# EAGLE library part MSP430FR5989IRGCT (library msp430fr5989irgct)
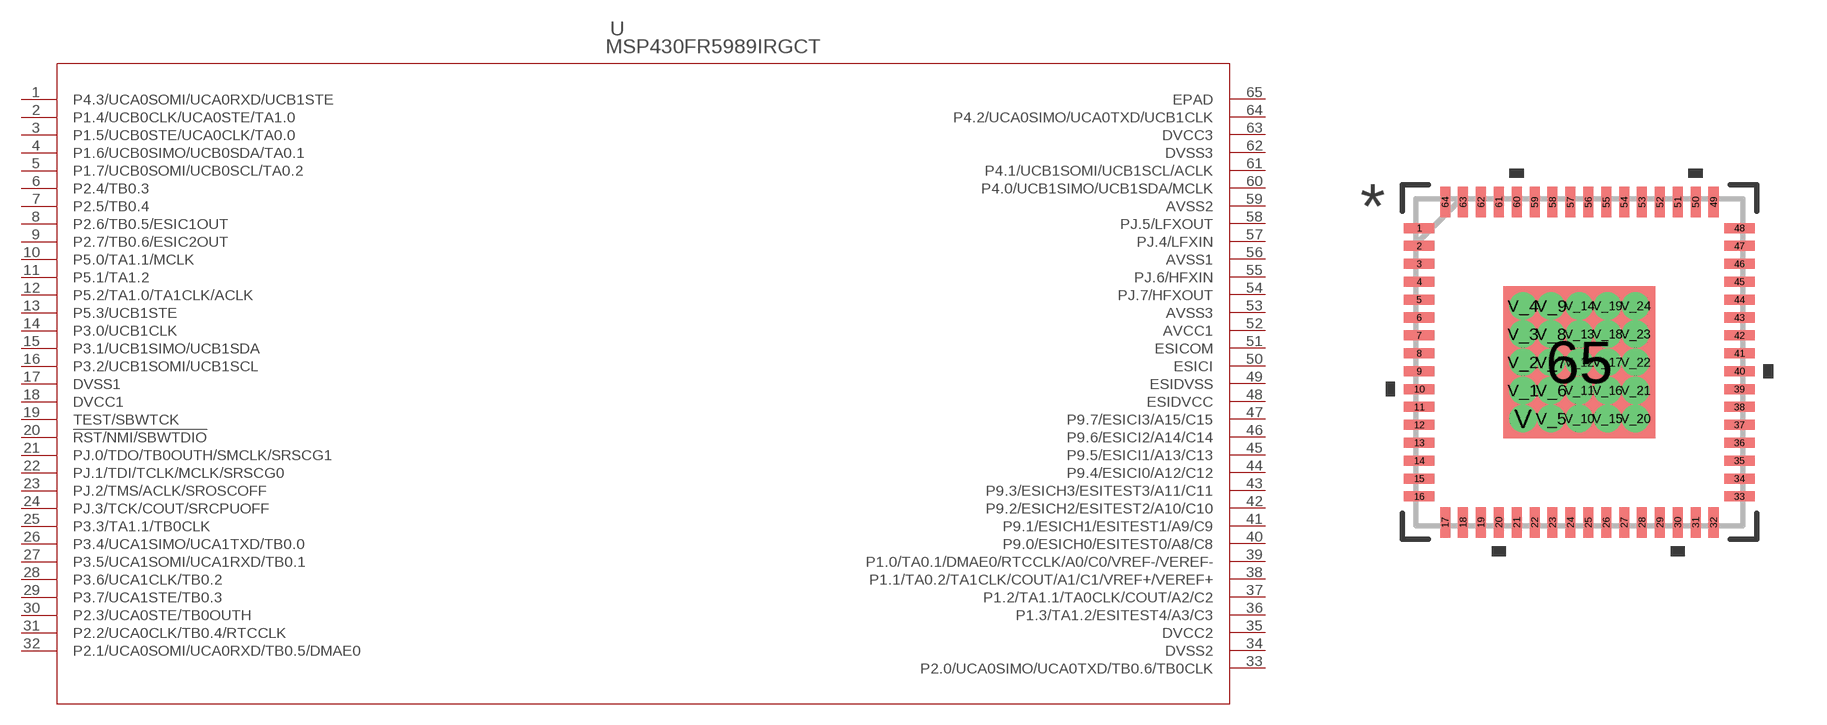
[diagram p0: symbol with the pads of RGC64_4P25X4P25; footprint RGC64_4P25X4P25]

Designator prefix U

## MSP430FR5989IRGCT (MANUFACTURER_PART_NUMBER: MSP430FR5989IRGCT; VENDOR: Texas Instruments)  [RGC64_4P25X4P25]
1  P4.3/UCA0SOMI/UCA0RXD/UCB1STE
2  P1.4/UCB0CLK/UCA0STE/TA1.0
3  P1.5/UCB0STE/UCA0CLK/TA0.0
4  P1.6/UCB0SIMO/UCB0SDA/TA0.1
5  P1.7/UCB0SOMI/UCB0SCL/TA0.2
6  P2.4/TB0.3
7  P2.5/TB0.4
8  P2.6/TB0.5/ESIC1OUT
9  P2.7/TB0.6/ESIC2OUT
10  P5.0/TA1.1/MCLK
11  P5.1/TA1.2
12  P5.2/TA1.0/TA1CLK/ACLK
13  P5.3/UCB1STE
14  P3.0/UCB1CLK
15  P3.1/UCB1SIMO/UCB1SDA
16  P3.2/UCB1SOMI/UCB1SCL
17  DVSS1  pwr
18  DVCC1  pwr
19  TEST/SBWTCK  in
20  !RST/NMI/SBWTDIO
21  PJ.0/TDO/TB0OUTH/SMCLK/SRSCG1
22  PJ.1/TDI/TCLK/MCLK/SRSCG0
23  PJ.2/TMS/ACLK/SROSCOFF
24  PJ.3/TCK/COUT/SRCPUOFF
25  P3.3/TA1.1/TB0CLK
26  P3.4/UCA1SIMO/UCA1TXD/TB0.0
27  P3.5/UCA1SOMI/UCA1RXD/TB0.1
28  P3.6/UCA1CLK/TB0.2
29  P3.7/UCA1STE/TB0.3
30  P2.3/UCA0STE/TB0OUTH
31  P2.2/UCA0CLK/TB0.4/RTCCLK
32  P2.1/UCA0SOMI/UCA0RXD/TB0.5/DMAE0
33  P2.0/UCA0SIMO/UCA0TXD/TB0.6/TB0CLK
34  DVSS2  pwr
35  DVCC2  pwr
36  P1.3/TA1.2/ESITEST4/A3/C3
37  P1.2/TA1.1/TA0CLK/COUT/A2/C2
38  P1.1/TA0.2/TA1CLK/COUT/A1/C1/VREF+/VEREF+
39  P1.0/TA0.1/DMAE0/RTCCLK/A0/C0/VREF-/VEREF-
40  P9.0/ESICH0/ESITEST0/A8/C8
41  P9.1/ESICH1/ESITEST1/A9/C9
42  P9.2/ESICH2/ESITEST2/A10/C10
43  P9.3/ESICH3/ESITEST3/A11/C11
44  P9.4/ESICI0/A12/C12
45  P9.5/ESICI1/A13/C13
46  P9.6/ESICI2/A14/C14
47  P9.7/ESICI3/A15/C15
48  ESIDVCC  pwr
49  ESIDVSS  pwr
50  ESICI  in
51  ESICOM  pas
52  AVCC1  pwr
53  AVSS3  pwr
54  PJ.7/HFXOUT
55  PJ.6/HFXIN
56  AVSS1  pwr
57  PJ.4/LFXIN
58  PJ.5/LFXOUT
59  AVSS2  pwr
60  P4.0/UCB1SIMO/UCB1SDA/MCLK
61  P4.1/UCB1SOMI/UCB1SCL/ACLK
62  DVSS3  pwr
63  DVCC3  pwr
64  P4.2/UCA0SIMO/UCA0TXD/UCB1CLK
65  EPAD  pas

## Footprint RGC64_4P25X4P25 (pad centres in mm)
smd 0.85 x 0.28: 1 -4.475,3.75; 2 -4.475,3.25; 3 -4.475,2.75; 4 -4.475,2.25; 5 -4.475,1.75; 6 -4.475,1.25; 7 -4.475,0.75; 8 -4.475,0.25; 9 -4.475,-0.25; 10 -4.475,-0.75; 11 -4.475,-1.25; 12 -4.475,-1.75; 13 -4.475,-2.25; 14 -4.475,-2.75; 15 -4.475,-3.25; 16 -4.475,-3.75; 33 4.475,-3.75; 34 4.475,-3.25; 35 4.475,-2.75; 36 4.475,-2.25; 37 4.475,-1.75; 38 4.475,-1.25; 39 4.475,-0.75; 40 4.475,-0.25; 41 4.475,0.25; 42 4.475,0.75; 43 4.475,1.25; 44 4.475,1.75; 45 4.475,2.25; 46 4.475,2.75; 47 4.475,3.25; 48 4.475,3.75
smd 0.28 x 0.85: 17 -3.751,-4.475; 18 -3.251,-4.475; 19 -2.751,-4.475; 20 -2.251,-4.475; 21 -1.75,-4.475; 22 -1.25,-4.475; 23 -0.75,-4.475; 24 -0.25,-4.475; 25 0.25,-4.475; 26 0.75,-4.475; 27 1.25,-4.475; 28 1.75,-4.475; 29 2.251,-4.475; 30 2.751,-4.475; 31 3.251,-4.475; 32 3.751,-4.475; 49 3.751,4.475; 50 3.251,4.475; 51 2.751,4.475; 52 2.251,4.475; 53 1.75,4.475; 54 1.25,4.475; 55 0.75,4.475; 56 0.25,4.475; 57 -0.25,4.475; 58 -0.75,4.475; 59 -1.25,4.475; 60 -1.75,4.475; 61 -2.251,4.475; 62 -2.751,4.475; 63 -3.251,4.475; 64 -3.751,4.475
smd 4.25 x 4.25: 65 0,0
drill 0.254 pad 0.508: V -1.575,-1.575; V_1 -1.575,-0.787; V_2 -1.575,0; V_3 -1.575,0.787; V_4 -1.575,1.575; V_5 -0.787,-1.575; V_6 -0.787,-0.787; V_7 -0.787,0; V_8 -0.787,0.787; V_9 -0.787,1.575; V_10 0,-1.575; V_11 0,-0.787; V_12 0,0; V_13 0,0.787; V_14 0,1.575; V_15 0.787,-1.575; V_16 0.787,-0.787; V_17 0.787,0; V_18 0.787,0.787; V_19 0.787,1.575; V_20 1.575,-1.575; V_21 1.575,-0.787; V_22 1.575,0; V_23 1.575,0.787; V_24 1.575,1.575